# EAGLE library part RSW-2-25P (library NRAO-MiniCkts)
Mini-Circuits SPDT switch, RSW-2-25P, DC - 2.5 GHz
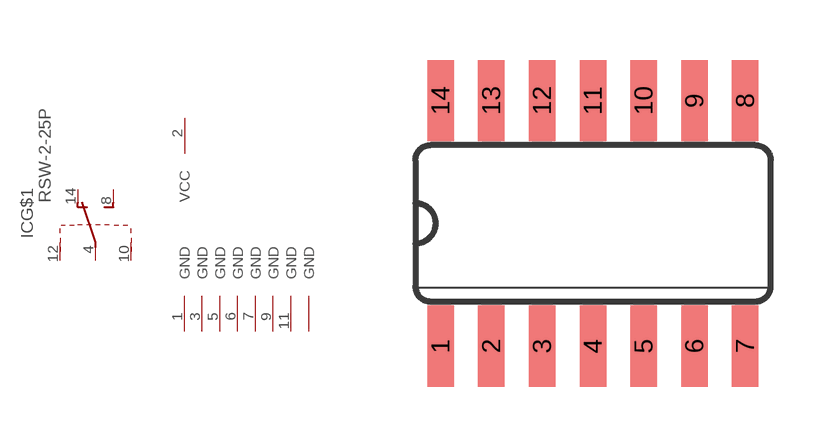
[diagram p0: symbol with the pads of DIL14; footprint DIL14]

Designator prefix IC; gates G$1=SPDT G$2=PWR-RSW

## RSW-2-25P  [DIL14]
1  G$2:GND  pwr
2  G$2:VCC  pwr
3  G$2:GND  pwr
4  G$1:RF_IN  pas
5  G$2:GND  pwr
6  G$2:GND  pwr
7  G$2:GND  pwr
8  G$1:RF_OUT2  pas
9  G$2:GND  pwr
10  G$1:CTRL2  pas
11  G$2:GND  pwr
12  G$1:CTRL1  pas
13  G$2:GND  pwr
14  G$1:RF_OUT1  pas

## Footprint DIL14 (pad centres in mm)
smd 0.66 x 2.032: 1 -3.81,-3.073; 2 -2.54,-3.073; 3 -1.27,-3.073; 4 0,-3.073; 5 1.27,-3.073; 6 2.54,-3.073; 7 3.81,-3.073; 8 3.81,3.073; 9 2.54,3.073; 10 1.27,3.073; 11 0,3.073; 12 -1.27,3.073; 13 -2.54,3.073; 14 -3.81,3.073